# EAGLE library part PA340CC (library PA340CC)
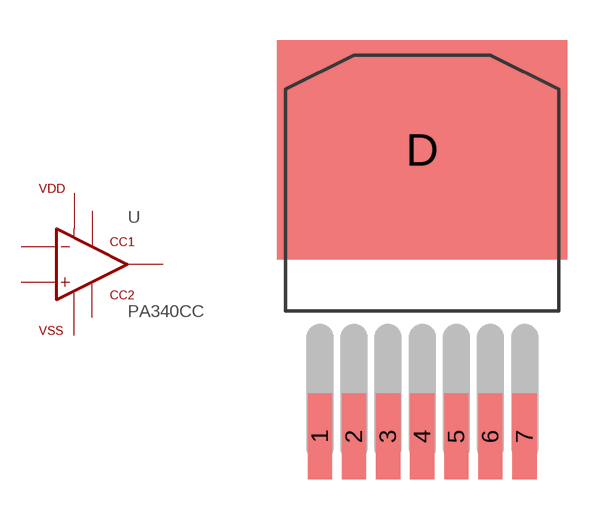
[diagram p0: symbol with the pads of D2PAK-7; footprint D2PAK-7]

Designator prefix -

## PA340CC  [D2PAK-7]
1  INV  in
2  NINV  in
3  VDD  pwr
4  VSS  pwr
5  OUT  out
6  CC1
7  CC2

## Footprint D2PAK-7 (pad centres in mm)
smd 0.9 x 3.2: 1 -3.81,-6.56; 2 -2.54,-6.56; 3 -1.27,-6.56; 4 0,-6.56; 5 1.27,-6.56; 6 2.54,-6.56; 7 3.81,-6.56
smd 10.8 x 8.15: D 0,4.1